# Altium schematic symbol library Schlib1.SchLib: 6 symbols
Pins are listed as number, name and electrical type; pins without a type are passive.

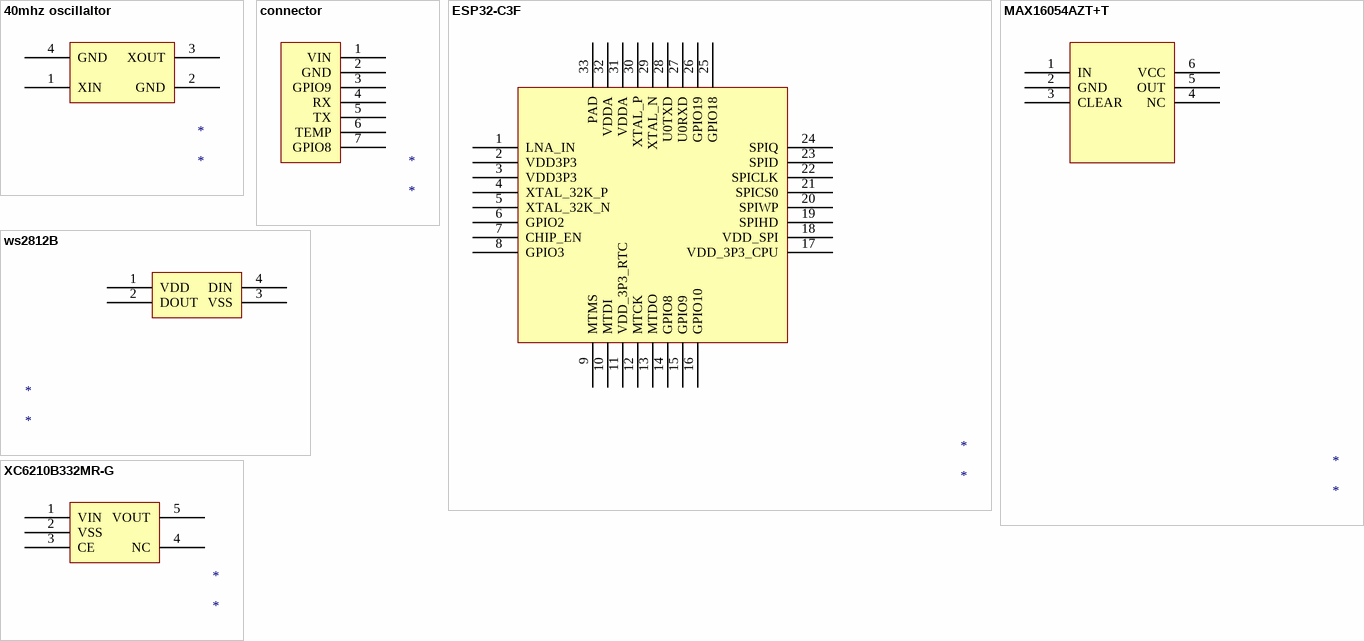
[diagram p0: symbols 40mhz oscillaltor to XC6210B332MR-G]

## 40mhz oscillaltor
designator *
pins: 1 XIN, 2 GND, 3 XOUT, 4 GND

## connector
designator *
pins: 1 VIN, 2 GND, 3 GPIO9, 4 RX, 5 TX, 6 TEMP, 7 GPIO8

## ESP32-C3F
designator *
pins: 1 LNA_IN, 2 VDD3P3, 3 VDD3P3, 4 XTAL_32K_P, 5 XTAL_32K_N, 6 GPIO2, 7 CHIP_EN, 8 GPIO3, 9 MTMS, 10 MTDI, 11 VDD_3P3_RTC, 12 MTCK, 13 MTDO, 14 GPIO8, 15 GPIO9, 16 GPIO10, 17 VDD_3P3_CPU, 18 VDD_SPI, 19 SPIHD, 20 SPIWP, 21 SPICS0, 22 SPICLK, 23 SPID, 24 SPIQ, 25 GPIO18, 26 GPIO19, 27 U0RXD, 28 U0TXD, 29 XTAL_N, 30 XTAL_P, 31 VDDA, 32 VDDA, 33 PAD

## MAX16054AZT+T
designator *
pins: 1 IN, 2 GND, 3 CLEAR, 4 NC, 5 OUT, 6 VCC

## ws2812B
designator *
pins: 1 VDD, 2 DOUT, 3 VSS, 4 DIN

## XC6210B332MR-G
designator *
pins: 1 VIN, 2 VSS, 3 CE, 4 NC, 5 VOUT